# EAGLE library part TEENSY-3.2 (library teensy-synth)
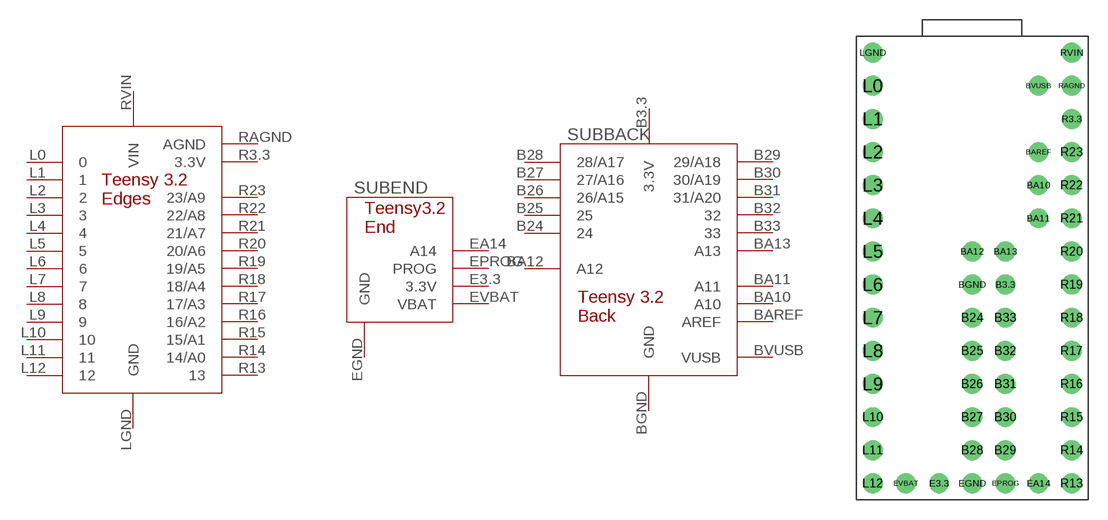
[diagram p0: symbol with the pads of TEENSY-3.2; footprint TEENSY-3.2]

Designator prefix SUB; gates EDGES=TEENSY-3.2-EDGES END=TEENSY-3.2-END BACK=TEENSY-3.2-BACK

## TEENSY-3.2PTH  [TEENSY-3.2]
B3.3  BACK:3.3V
B24  BACK:24
B25  BACK:25
B26  BACK:26/A15
B27  BACK:27/A16
B28  BACK:28/A17
B29  BACK:29/A18
B30  BACK:30/A19
B31  BACK:31/A20
B32  BACK:32
B33  BACK:33
BA10  BACK:A10
BA11  BACK:A11
BA12  BACK:A12
BA13  BACK:A13
BAREF  BACK:AREF
BGND  BACK:GND
BVUSB  BACK:VUSB
E3.3  END:3.3V
EA14  END:A14
EGND  END:GND
EPROG  END:PROG
EVBAT  END:VBAT
L0  EDGES:0
L1  EDGES:1
L2  EDGES:2
L3  EDGES:3
L4  EDGES:4
L5  EDGES:5
L6  EDGES:6
L7  EDGES:7
L8  EDGES:8
L9  EDGES:9
L10  EDGES:10
L11  EDGES:11
L12  EDGES:12
LGND  EDGES:GND
R3.3  EDGES:3.3V
R13  EDGES:13
R14  EDGES:14/A0
R15  EDGES:15/A1
R16  EDGES:16/A2
R17  EDGES:17/A3
R18  EDGES:18/A4
R19  EDGES:19/A5
R20  EDGES:20/A6
R21  EDGES:21/A7
R22  EDGES:22/A8
R23  EDGES:23/A9
RAGND  EDGES:AGND
RVIN  EDGES:VIN

## Footprint TEENSY-3.2 (pad centres in mm)
drill 1.016: B3.3 11.43,16.51; B24 8.89,13.97; B25 8.89,11.43; B26 8.89,8.89; B27 8.89,6.35; B28 8.89,3.81; B29 11.43,3.81; B30 11.43,6.35; B31 11.43,8.89; B32 11.43,11.43; B33 11.43,13.97; BA10 13.97,24.13; BA11 13.97,21.59; BA12 8.89,19.05; BA13 11.43,19.05; BAREF 13.97,26.67; BGND 8.89,16.51; BVUSB 13.97,31.75; E3.3 6.35,1.27; EA14 13.97,1.27; EGND 8.89,1.27; EPROG 11.43,1.27; EVBAT 3.81,1.27; L0 1.27,31.75; L1 1.27,29.21; L2 1.27,26.67; L3 1.27,24.13; L4 1.27,21.59; L5 1.27,19.05; L6 1.27,16.51; L7 1.27,13.97; L8 1.27,11.43; L9 1.27,8.89; L10 1.27,6.35; L11 1.27,3.81; L12 1.27,1.27; LGND 1.27,34.29; R3.3 16.51,29.21; R13 16.51,1.27; R14 16.51,3.81; R15 16.51,6.35; R16 16.51,8.89; R17 16.51,11.43; R18 16.51,13.97; R19 16.51,16.51; R20 16.51,19.05; R21 16.51,21.59; R22 16.51,24.13; R23 16.51,26.67; RAGND 16.51,31.75; RVIN 16.51,34.29